# Altium footprint library vitech_opto.PcbLib: 1 footprints
Each footprint in its own frame and in the unit in brackets; x right, y up, seen from the top. Pads: shape width x height; smd on the part's side, far side on the other; paste and mask are expansions set on the pad; w line width, h text height; cw(c..) or ccw(c..) is an arc to the next point about the centre after c.
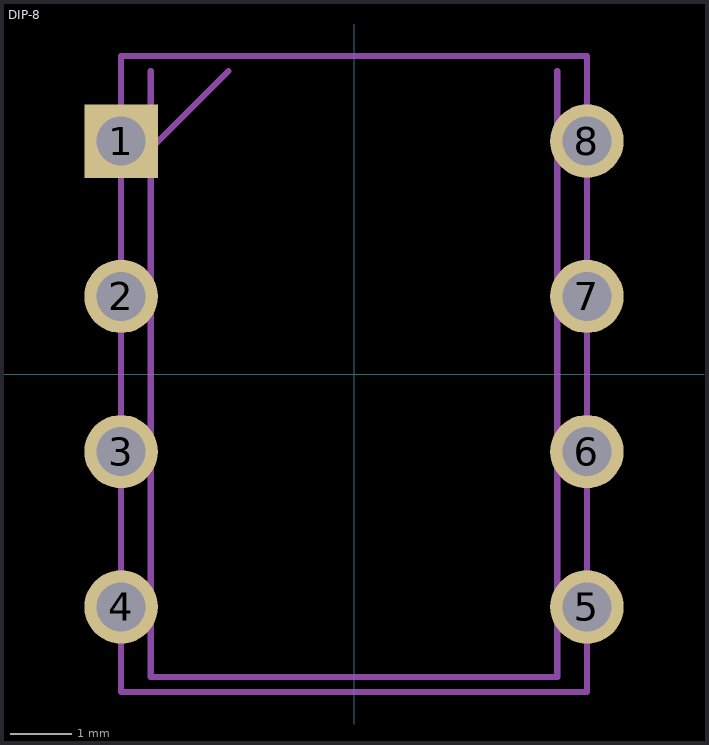
[diagram p0: the footprint, top view; thin cyan lines are the x and y axes]

## DIP-8 [mm]
pads (8):
  rect 1.2x1.2 hole 0.8: 1(-3.81,3.81)
  round 1.2 hole 0.8: 2(-3.81,1.27) 3(-3.81,-1.27) 4(-3.81,-3.81) 5(3.81,-3.81) 6(3.81,-1.27) 7(3.81,1.27) 8(3.81,3.81)
Assembly:
  lines w0.1: -3.81,-5.205 3.81,-5.205 3.81,5.205 -3.81,5.205 -3.81,-5.205
Top Assembly:
  text ".Designator" at -1.474,5.576 h0.5
Mechanical 13:
  lines w0.1: -3.325,3.685 -2.055,4.955 ; -3.325,4.955 -3.325,-4.955 3.325,-4.955 3.325,4.955
Mechanical 19:
  text ".Comment" at -1.443,6.414 h0.5
3D body "TLP250_F_.stp": height 4.85, standoff -3.5, extent -3.96,-4.83 3.96,4.83